# EAGLE library part STM32C011D (library Bits_library_eagle)
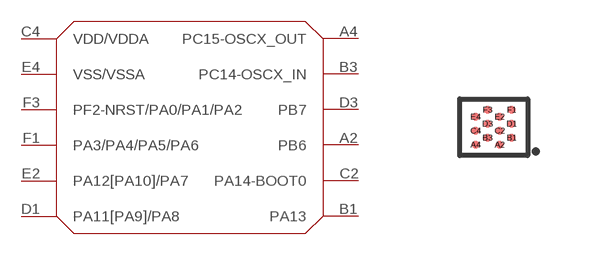
[diagram p89: symbol with the pads of WLCSP-12; footprint WLCSP-12]

Designator prefix IC

## STM32C011D  [WLCSP-12]
A2  PB6
A4  PC15-OSCX_OUT
B1  PA13
B3  PC14-OSCX_IN
C2  PA14-BOOT0
C4  VDD/VDDA  pwr
D1  PA11[PA9]/PA8
D3  PB7
E2  PA12[PA10]/PA7
E4  VSS/VSSA  pwr
F1  PA3/PA4/PA5/PA6
F3  PF2-NRST/PA0/PA1/PA2

## Footprint WLCSP-12 (pad centres in mm)
smd 0.2 x 0.2: A2 -0.303,-0.175; A4 -0.909,-0.175; B1 0,0; B3 -0.606,0; C2 -0.303,0.175; C4 -0.909,0.175; D1 0,0.35; D3 -0.606,0.35; E2 -0.303,0.525; E4 -0.909,0.525; F1 0,0.7; F3 -0.606,0.7